# Altium integrated library ON Semi Triacs.IntLib: 233 symbols (part 2 of 5)
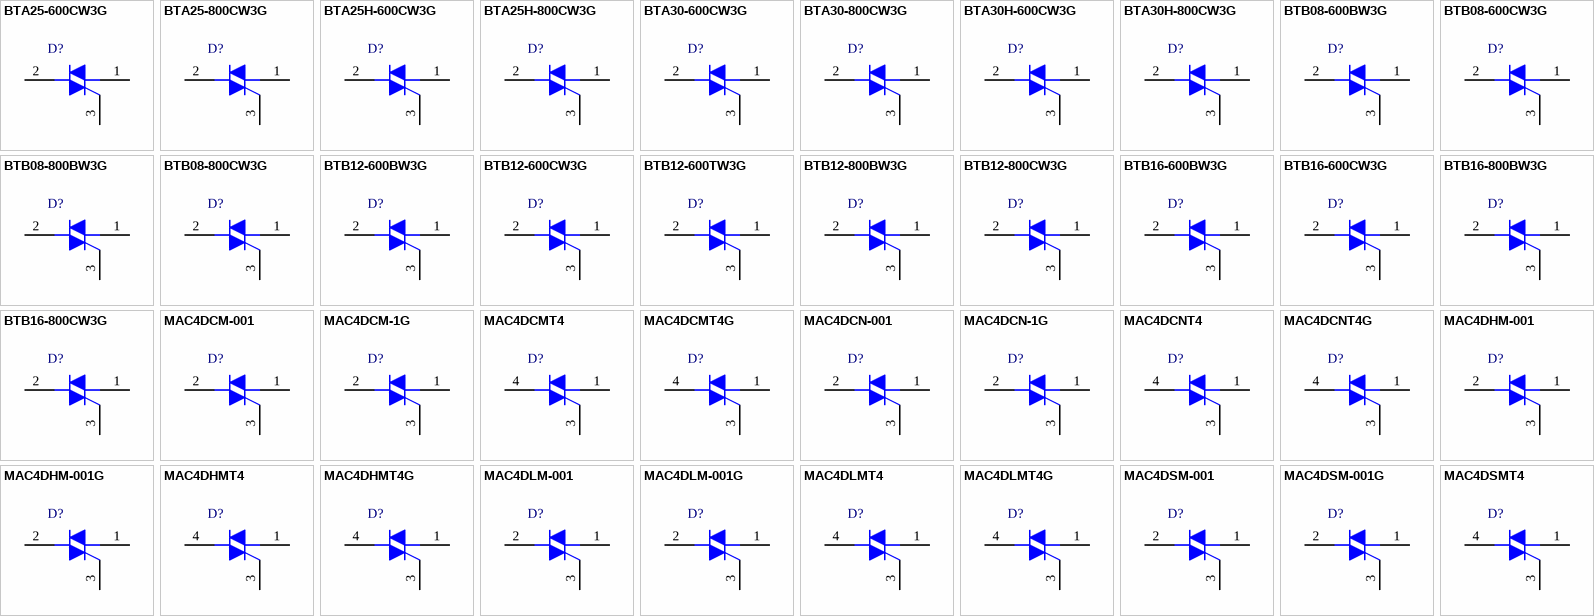
[diagram p6: symbols BTA25-600CW3G to MAC4DSMT4]

## BTB08-600BW3G
designator D?
Triacs, Silicon Bidirectional Thyristor, 3-Pin TO-220, Pb-Free, Tube; Manufacturer: On Semiconductor; PartNumber: BTB08-600BW3G; IGT Max (mA): 50; IT(RMS) Max (A): 8; ITSM Max (A): 90; DatasheetVersion: Rev. 1; PackageVersion: Rev. O, 07/2008; PackageReference: TO-220-3-221A-07; PackageDescription: 3-Pin Flange Mount, Vertical Straight Lead, Body 9.97 x 4.445 mm, Pitch 2.54 mm; Supplier 1: Digi-Key; Supplier Part Number 1: BTB08-600BW3G-ND; Supplier 2: Newark; Supplier Part Number 2: 75M3828; Supplier 3: Mouser; Supplier Part Number 3: 863-BTB08-600BW3G; Packing: Tube; RoHS: Pb-Free; Mounting Technology: Through Hole; ComponentLink1Description: Manufacturer URL; ComponentLink1URL: http://www.onsemi.com/; ComponentLink2Description: Datasheet; ComponentLink2URL: http://www.onsemi.com/pub_link/Collateral/BTB08-600BW3-D.PDF; ComponentLink3Description: Package Specification; ComponentLink3URL: http://www.onsemi.com/pub_link/Collateral/221A-07.PDF
footprint ONSC-TO-220-3-221A-07 (FM, 3-Leads, Body 10.3x4.85mm, Pitch 2.54mm)
pins: 1 MT1, 2 MT2, 3 G

## BTB08-600CW3G
designator D?
Triacs, Silicon Bidirectional Thyristor, 3-Pin TO-220, Pb-Free, Tube; Manufacturer: On Semiconductor; PartNumber: BTB08-600CW3G; IGT Max (mA): 35; IT(RMS) Max (A): 8; ITSM Max (A): 90; DatasheetVersion: Rev. 1; PackageVersion: Rev. O, 07/2008; PackageReference: TO-220-3-221A-07; PackageDescription: 3-Pin Flange Mount, Vertical Straight Lead, Body 9.97 x 4.445 mm, Pitch 2.54 mm; Supplier 1: Digi-Key; Supplier Part Number 1: BTB08-600CW3G-ND; Supplier 2: Newark; Supplier Part Number 2: 75M3829; Supplier 3: Mouser; Supplier Part Number 3: 863-BTB08-600CW3G; Packing: Tube; RoHS: Pb-Free; Mounting Technology: Through Hole; ComponentLink1Description: Manufacturer URL; ComponentLink1URL: http://www.onsemi.com/; ComponentLink2Description: Datasheet; ComponentLink2URL: http://www.onsemi.com/pub_link/Collateral/BTB08-600CW3-D.PDF; ComponentLink3Description: Package Specification; ComponentLink3URL: http://www.onsemi.com/pub_link/Collateral/221A-07.PDF
footprint ONSC-TO-220-3-221A-07 (FM, 3-Leads, Body 10.3x4.85mm, Pitch 2.54mm)
pins: 1 MT1, 2 MT2, 3 G

## BTB08-800BW3G
designator D?
Triacs, Silicon Bidirectional Thyristor, 3-Pin TO-220, Pb-Free, Tube; Manufacturer: On Semiconductor; PartNumber: BTB08-800BW3G; IGT Max (mA): 50; IT(RMS) Max (A): 8; ITSM Max (A): 90; DatasheetVersion: Rev. 1; PackageVersion: Rev. O, 07/2008; PackageReference: TO-220-3-221A-07; PackageDescription: 3-Pin Flange Mount, Vertical Straight Lead, Body 9.97 x 4.445 mm, Pitch 2.54 mm; Supplier 1: Digi-Key; Supplier Part Number 1: BTB08-800BW3G-ND; Supplier 2: Mouser; Supplier Part Number 2: 863-BTB08-800BW3G; Packing: Tube; RoHS: Pb-Free; Mounting Technology: Through Hole; ComponentLink1Description: Manufacturer URL; ComponentLink1URL: http://www.onsemi.com/; ComponentLink2Description: Datasheet; ComponentLink2URL: http://www.onsemi.com/pub_link/Collateral/BTB08-600BW3-D.PDF; ComponentLink3Description: Package Specification; ComponentLink3URL: http://www.onsemi.com/pub_link/Collateral/221A-07.PDF
footprint ONSC-TO-220-3-221A-07 (FM, 3-Leads, Body 10.3x4.85mm, Pitch 2.54mm)
pins: 1 MT1, 2 MT2, 3 G

## BTB08-800CW3G
designator D?
Triacs, Silicon Bidirectional Thyristor, 3-Pin TO-220, Pb-Free, Tube; Manufacturer: On Semiconductor; PartNumber: BTB08-800CW3G; IGT Max (mA): 35; IT(RMS) Max (A): 8; ITSM Max (A): 90; DatasheetVersion: Rev. 1; PackageVersion: Rev. O, 07/2008; PackageReference: TO-220-3-221A-07; PackageDescription: 3-Pin Flange Mount, Vertical Straight Lead, Body 9.97 x 4.445 mm, Pitch 2.54 mm; Supplier 1: Digi-Key; Supplier Part Number 1: BTB08-800CW3G-ND; Supplier 2: Mouser; Supplier Part Number 2: 863-BTB08-800CW3G; Packing: Tube; RoHS: Pb-Free; Mounting Technology: Through Hole; ComponentLink1Description: Manufacturer URL; ComponentLink1URL: http://www.onsemi.com/; ComponentLink2Description: Datasheet; ComponentLink2URL: http://www.onsemi.com/pub_link/Collateral/BTB08-600CW3-D.PDF; ComponentLink3Description: Package Specification; ComponentLink3URL: http://www.onsemi.com/pub_link/Collateral/221A-07.PDF
footprint ONSC-TO-220-3-221A-07 (FM, 3-Leads, Body 10.3x4.85mm, Pitch 2.54mm)
pins: 1 MT1, 2 MT2, 3 G

## BTB12-600BW3G
designator D?
Triacs, Silicon Bidirectional Thyristor, 3-Pin TO-220, Pb-Free, Tube; Manufacturer: On Semiconductor; PartNumber: BTB12-600BW3G; IGT Max (mA): 50; IT(RMS) Max (A): 12; ITSM Max (A): 120; DatasheetVersion: Rev. 1; PackageVersion: Rev. O, 07/2008; PackageReference: TO-220-3-221A-07; PackageDescription: 3-Pin Flange Mount, Vertical Straight Lead, Body 9.97 x 4.445 mm, Pitch 2.54 mm; Supplier 1: Digi-Key; Supplier Part Number 1: BTB12-600BW3GOS-ND; Supplier 2: Newark; Supplier Part Number 2: 75M3832; Supplier 3: Mouser; Supplier Part Number 3: 863-BTB12-600BW3G; Packing: Tube; RoHS: Pb-Free; Mounting Technology: Through Hole; ComponentLink1Description: Manufacturer URL; ComponentLink1URL: http://www.onsemi.com/; ComponentLink2Description: Datasheet; ComponentLink2URL: http://www.onsemi.com/pub_link/Collateral/BTB12-600BW3-D.PDF; ComponentLink3Description: Package Specification; ComponentLink3URL: http://www.onsemi.com/pub_link/Collateral/221A-07.PDF
footprint ONSC-TO-220-3-221A-07 (FM, 3-Leads, Body 10.3x4.85mm, Pitch 2.54mm)
pins: 1 MT1, 2 MT2, 3 G

## BTB12-600CW3G
designator D?
Triacs, Silicon Bidirectional Thyristor, 3-Pin TO-220, Pb-Free, Tube; Manufacturer: On Semiconductor; PartNumber: BTB12-600CW3G; IGT Max (mA): 35; IT(RMS) Max (A): 12; ITSM Max (A): 120; DatasheetVersion: Rev. 1; PackageVersion: Rev. O, 07/2008; PackageReference: TO-220-3-221A-07; PackageDescription: 3-Pin Flange Mount, Vertical Straight Lead, Body 9.97 x 4.445 mm, Pitch 2.54 mm; Supplier 1: Digi-Key; Supplier Part Number 1: BTB12-600CW3GOS-ND; Supplier 2: Farnell; Supplier Part Number 2: 1707055; Supplier 3: Newark; Supplier Part Number 3: 75M3833; Supplier 4: Mouser; Supplier Part Number 4: 863-BTB12-600CW3G; Packing: Tube; RoHS: Pb-Free; Mounting Technology: Through Hole; ComponentLink1Description: Manufacturer URL; ComponentLink1URL: http://www.onsemi.com/; ComponentLink2Description: Datasheet; ComponentLink2URL: http://www.onsemi.com/pub_link/Collateral/BTB12-600CW3-D.PDF; ComponentLink3Description: Package Specification; ComponentLink3URL: http://www.onsemi.com/pub_link/Collateral/221A-07.PDF
footprint ONSC-TO-220-3-221A-07 (FM, 3-Leads, Body 10.3x4.85mm, Pitch 2.54mm)
pins: 1 MT1, 2 MT2, 3 G

## BTB12-600TW3G
designator D?
Triacs, Silicon Bidirectional Thyristor, 3-Pin TO-220, Pb-Free, Tube; Manufacturer: On Semiconductor; PartNumber: BTB12-600TW3G; IGT Max (mA): 5; IT(RMS) Max (A): 12; ITSM Max (A): 126; DatasheetVersion: Rev. 0; PackageVersion: Rev. O, 07/2008; PackageReference: TO-220-3-221A-07; PackageDescription: 3-Pin Flange Mount, Vertical Straight Lead, Body 9.97 x 4.445 mm, Pitch 2.54 mm; Supplier 1: Digi-Key; Supplier Part Number 1: BTB12-600TW3GOS-ND; Supplier 2: Mouser; Supplier Part Number 2: 863-BTB12-600TW3G; Packing: Tube; RoHS: Pb-Free; Mounting Technology: Through Hole; ComponentLink1Description: Manufacturer URL; ComponentLink1URL: http://www.onsemi.com/; ComponentLink2Description: Datasheet; ComponentLink2URL: http://www.onsemi.com/pub_link/Collateral/BTB12-600TW3-D.PDF; ComponentLink3Description: Package Specification; ComponentLink3URL: http://www.onsemi.com/pub_link/Collateral/221A-07.PDF
footprint ONSC-TO-220-3-221A-07 (FM, 3-Leads, Body 10.3x4.85mm, Pitch 2.54mm)
pins: 1 MT1, 2 MT2, 3 G

## BTB12-800BW3G
designator D?
Triacs, Silicon Bidirectional Thyristor, 3-Pin TO-220, Pb-Free, Tube; Manufacturer: On Semiconductor; PartNumber: BTB12-800BW3G; IGT Max (mA): 50; IT(RMS) Max (A): 12; ITSM Max (A): 120; DatasheetVersion: Rev. 1; PackageVersion: Rev. O, 07/2008; PackageReference: TO-220-3-221A-07; PackageDescription: 3-Pin Flange Mount, Vertical Straight Lead, Body 9.97 x 4.445 mm, Pitch 2.54 mm; Supplier 1: Digi-Key; Supplier Part Number 1: BTB12-800BW3GOS-ND; Supplier 2: Newark; Supplier Part Number 2: 75M3834; Supplier 3: Mouser; Supplier Part Number 3: 863-BTB12-800BW3G; Packing: Tube; RoHS: Pb-Free; Mounting Technology: Through Hole; ComponentLink1Description: Manufacturer URL; ComponentLink1URL: http://www.onsemi.com/; ComponentLink2Description: Datasheet; ComponentLink2URL: http://www.onsemi.com/pub_link/Collateral/BTB12-600BW3-D.PDF; ComponentLink3Description: Package Specification; ComponentLink3URL: http://www.onsemi.com/pub_link/Collateral/221A-07.PDF
footprint ONSC-TO-220-3-221A-07 (FM, 3-Leads, Body 10.3x4.85mm, Pitch 2.54mm)
pins: 1 MT1, 2 MT2, 3 G

## BTB12-800CW3G
designator D?
Triacs, Silicon Bidirectional Thyristor, 3-Pin TO-220, Pb-Free, Tube; Manufacturer: On Semiconductor; PartNumber: BTB12-800CW3G; IGT Max (mA): 35; IT(RMS) Max (A): 12; ITSM Max (A): 120; DatasheetVersion: Rev. 1; PackageVersion: Rev. O, 07/2008; PackageReference: TO-220-3-221A-07; PackageDescription: 3-Pin Flange Mount, Vertical Straight Lead, Body 9.97 x 4.445 mm, Pitch 2.54 mm; Supplier 1: Digi-Key; Supplier Part Number 1: BTB12-800CW3GOS-ND; Supplier 2: Mouser; Supplier Part Number 2: 863-BTB12-800CW3G; Packing: Tube; RoHS: Pb-Free; Mounting Technology: Through Hole; ComponentLink1Description: Manufacturer URL; ComponentLink1URL: http://www.onsemi.com/; ComponentLink2Description: Datasheet; ComponentLink2URL: http://www.onsemi.com/pub_link/Collateral/BTB12-600CW3-D.PDF; ComponentLink3Description: Package Specification; ComponentLink3URL: http://www.onsemi.com/pub_link/Collateral/221A-07.PDF
footprint ONSC-TO-220-3-221A-07 (FM, 3-Leads, Body 10.3x4.85mm, Pitch 2.54mm)
pins: 1 MT1, 2 MT2, 3 G

## BTB16-600BW3G
designator D?
Triacs, Silicon Bidirectional Thyristor, 3-Pin TO-220, Pb-Free, Tube; Manufacturer: On Semiconductor; PartNumber: BTB16-600BW3G; IGT Max (mA): 50; IT(RMS) Max (A): 16; ITSM Max (A): 170; DatasheetVersion: Rev. 2; PackageVersion: Rev. O, 07/2008; PackageReference: TO-220-3-221A-07; PackageDescription: 3-Pin Flange Mount, Vertical Straight Lead, Body 9.97 x 4.445 mm, Pitch 2.54 mm; Supplier 1: Digi-Key; Supplier Part Number 1: BTB16-600BW3G-ND; Supplier 2: Mouser; Supplier Part Number 2: 863-BTB16-600BW3G; Packing: Tube; RoHS: Pb-Free; Mounting Technology: Through Hole; ComponentLink1Description: Manufacturer URL; ComponentLink1URL: http://www.onsemi.com/; ComponentLink2Description: Datasheet; ComponentLink2URL: http://www.onsemi.com/pub_link/Collateral/BTB16-600BW3-D.PDF; ComponentLink3Description: Package Specification; ComponentLink3URL: http://www.onsemi.com/pub_link/Collateral/221A-07.PDF
footprint ONSC-TO-220-3-221A-07 (FM, 3-Leads, Body 10.3x4.85mm, Pitch 2.54mm)
pins: 1 MT1, 2 MT2, 3 G

## BTB16-600CW3G
designator D?
Triacs, Silicon Bidirectional Thyristor, 3-Pin TO-220, Pb-Free, Tube; Manufacturer: On Semiconductor; PartNumber: BTB16-600CW3G; IGT Max (mA): 35; IT(RMS) Max (A): 16; ITSM Max (A): 170; DatasheetVersion: Rev. 2; PackageVersion: Rev. O, 07/2008; PackageReference: TO-220-3-221A-07; PackageDescription: 3-Pin Flange Mount, Vertical Straight Lead, Body 9.97 x 4.445 mm, Pitch 2.54 mm; Supplier 1: Digi-Key; Supplier Part Number 1: BTB16-600CW3G-ND; Supplier 2: Farnell; Supplier Part Number 2: 1706026; Supplier 3: Newark; Supplier Part Number 3: 75M3837; Supplier 4: Mouser; Supplier Part Number 4: 863-BTB16-600CW3G; Packing: Tube; RoHS: Pb-Free; Mounting Technology: Through Hole; ComponentLink1Description: Manufacturer URL; ComponentLink1URL: http://www.onsemi.com/; ComponentLink2Description: Datasheet; ComponentLink2URL: http://www.onsemi.com/pub_link/Collateral/BTB16-600CW3-D.PDF; ComponentLink3Description: Package Specification; ComponentLink3URL: http://www.onsemi.com/pub_link/Collateral/221A-07.PDF
footprint ONSC-TO-220-3-221A-07 (FM, 3-Leads, Body 10.3x4.85mm, Pitch 2.54mm)
pins: 1 MT1, 2 MT2, 3 G

## BTB16-800BW3G
designator D?
Triacs, Silicon Bidirectional Thyristor, 3-Pin TO-220, Pb-Free, Tube; Manufacturer: On Semiconductor; PartNumber: BTB16-800BW3G; IGT Max (mA): 50; IT(RMS) Max (A): 16; ITSM Max (A): 170; DatasheetVersion: Rev. 2; PackageVersion: Rev. O, 07/2008; PackageReference: TO-220-3-221A-07; PackageDescription: 3-Pin Flange Mount, Vertical Straight Lead, Body 9.97 x 4.445 mm, Pitch 2.54 mm; Supplier 1: Digi-Key; Supplier Part Number 1: BTB16-800BW3G-ND; Supplier 2: Newark; Supplier Part Number 2: 75M3838; Supplier 3: Mouser; Supplier Part Number 3: 863-BTB16-800BW3G; Packing: Tube; RoHS: Pb-Free; Mounting Technology: Through Hole; ComponentLink1Description: Manufacturer URL; ComponentLink1URL: http://www.onsemi.com/; ComponentLink2Description: Datasheet; ComponentLink2URL: http://www.onsemi.com/pub_link/Collateral/BTB16-600BW3-D.PDF; ComponentLink3Description: Package Specification; ComponentLink3URL: http://www.onsemi.com/pub_link/Collateral/221A-07.PDF
footprint ONSC-TO-220-3-221A-07 (FM, 3-Leads, Body 10.3x4.85mm, Pitch 2.54mm)
pins: 1 MT1, 2 MT2, 3 G

## BTB16-800CW3G
designator D?
Triacs, Silicon Bidirectional Thyristor, 3-Pin TO-220, Pb-Free, Tube; Manufacturer: On Semiconductor; PartNumber: BTB16-800CW3G; IGT Max (mA): 35; IT(RMS) Max (A): 16; ITSM Max (A): 170; DatasheetVersion: Rev. 2; PackageVersion: Rev. O, 07/2008; PackageReference: TO-220-3-221A-07; PackageDescription: 3-Pin Flange Mount, Vertical Straight Lead, Body 9.97 x 4.445 mm, Pitch 2.54 mm; Supplier 1: Digi-Key; Supplier Part Number 1: BTB16-800CW3G-ND; Supplier 2: Newark; Supplier Part Number 2: 75M3839; Supplier 3: Mouser; Supplier Part Number 3: 863-BTB16-800CW3G; Packing: Tube; RoHS: Pb-Free; Mounting Technology: Through Hole; ComponentLink1Description: Manufacturer URL; ComponentLink1URL: http://www.onsemi.com/; ComponentLink2Description: Datasheet; ComponentLink2URL: http://www.onsemi.com/pub_link/Collateral/BTB16-600CW3-D.PDF; ComponentLink3Description: Package Specification; ComponentLink3URL: http://www.onsemi.com/pub_link/Collateral/221A-07.PDF
footprint ONSC-TO-220-3-221A-07 (FM, 3-Leads, Body 10.3x4.85mm, Pitch 2.54mm)
pins: 1 MT1, 2 MT2, 3 G

## MAC4DCM-001
designator D?
Triacs, Silicon Bidirectional Thyristor, 3-Pin IPAK, Tube; Manufacturer: On Semiconductor; PartNumber: MAC4DCM-001; IGT Max (mA): 35; IT(RMS) Max (A): 4; ITSM Max (A): 40; DatasheetVersion: Rev. 7; PackageVersion: Rev. C, 12/2010; PackageReference: IPAK-3-369D-01; PackageDescription: 3-Pin Flange Mount, Vertical Straight Lead, Body 6.54 x 2.285 mm, Pitch 2.29 mm; Supplier 1: Digi-Key; Supplier Part Number 1: MAC4DCM-001-ND; Supplier 2: Mouser; Supplier Part Number 2: 863-MAC4DCM-001; Packing: Tube; Mounting Technology: Through Hole; Code_JEDEC: TO-251; ComponentLink1Description: Manufacturer URL; ComponentLink1URL: http://www.onsemi.com/; ComponentLink2Description: Datasheet; ComponentLink2URL: http://www.onsemi.com/pub_link/Collateral/MAC4DCM-D.PDF; ComponentLink3Description: Package Specification; ComponentLink3URL: http://www.onsemi.cn/pub_link/Collateral/369D.PDF
footprint ONSC-IPAK-3-369D-01 (FM, 3-Leads, Body 6.75x2.4mm, Pitch 2.29mm)
pins: 1 MT1, 2 MT2, 3 G

## MAC4DCM-1G
designator D?
Triacs, Silicon Bidirectional Thyristor, 3-Pin IPAK, Pb-Free, Tube; Manufacturer: On Semiconductor; PartNumber: MAC4DCM-1G; IGT Max (mA): 35; IT(RMS) Max (A): 4; ITSM Max (A): 40; DatasheetVersion: Rev. 7; PackageVersion: Rev. C, 12/2010; PackageReference: IPAK-3-369D-01; PackageDescription: 3-Pin Flange Mount, Vertical Straight Lead, Body 6.54 x 2.285 mm, Pitch 2.29 mm; Supplier 1: Digi-Key; Supplier Part Number 1: MAC4DCM-1G-ND; Supplier 2: Newark; Supplier Part Number 2: 41K9933; Supplier 3: Mouser; Supplier Part Number 3: 863-MAC4DCM-1G; Packing: Tube; RoHS: Pb-Free; Mounting Technology: Through Hole; Code_JEDEC: TO-251; ComponentLink1Description: Manufacturer URL; ComponentLink1URL: http://www.onsemi.com/; ComponentLink2Description: Datasheet; ComponentLink2URL: http://www.onsemi.com/pub_link/Collateral/MAC4DCM-D.PDF; ComponentLink3Description: Package Specification; ComponentLink3URL: http://www.onsemi.cn/pub_link/Collateral/369D.PDF
footprint ONSC-IPAK-3-369D-01 (FM, 3-Leads, Body 6.75x2.4mm, Pitch 2.29mm)
pins: 1 MT1, 2 MT2, 3 G

## MAC4DCMT4
designator D?
Triacs, Silicon Bidirectional Thyristor, 3-Pin DPAK, Tape and Reel; Manufacturer: On Semiconductor; PartNumber: MAC4DCMT4; IGT Max (mA): 35; IT(RMS) Max (A): 4; ITSM Max (A): 40; DatasheetVersion: Rev. 7; PackageVersion: Rev. E, 02/2014; PackageReference: DPAK-3-369C-01; PackageDescription: 3-Pin Flange Mount, Body 6.54 x 6.095 mm, Pitch 2.29 mm; Packing: Tape and Reel; Mounting Technology: Surface Mount; ComponentLink1Description: Manufacturer URL; ComponentLink1URL: http://www.onsemi.com/; ComponentLink2Description: Datasheet; ComponentLink2URL: http://www.onsemi.com/pub_link/Collateral/MAC4DCM-D.PDF; ComponentLink3Description: Package Specification; ComponentLink3URL: http://www.onsemi.cn/pub_link/Collateral/369C.PDF
footprint ONSC-DPAK-3-369C-01_V (DPAK, 3-Leads, Body 6.54x6.095mm, Pitch 2.29mm)
pins: 1 MT1, 3 G, 4 MT2

## MAC4DCMT4G
designator D?
Triacs, Silicon Bidirectional Thyristor, 3-Pin DPAK, Pb-Free, Tape and Reel; Manufacturer: On Semiconductor; PartNumber: MAC4DCMT4G; IGT Max (mA): 35; IT(RMS) Max (A): 4; ITSM Max (A): 40; DatasheetVersion: Rev. 7; PackageVersion: Rev. E, 02/2014; PackageReference: DPAK-3-369C-01; PackageDescription: 3-Pin Flange Mount, Body 6.54 x 6.095 mm, Pitch 2.29 mm; Supplier 1: Digi-Key; Supplier Part Number 1: MAC4DCMT4GOSTR-ND; Supplier 2: Digi-Key; Supplier Part Number 2: MAC4DCMT4GOSCT-ND; Supplier 3: Digi-Key; Supplier Part Number 3: MAC4DCMT4GOSDKR-ND; Supplier 4: Newark; Supplier Part Number 4: 71J5235; Supplier 5: Newark; Supplier Part Number 5: 05R8889; Supplier 6: Mouser; Supplier Part Number 6: 863-MAC4DCMT4G; Packing: Tape and Reel; RoHS: Pb-Free; Mounting Technology: Surface Mount; ComponentLink1Description: Manufacturer URL; ComponentLink1URL: http://www.onsemi.com/; ComponentLink2Description: Datasheet; ComponentLink2URL: http://www.onsemi.com/pub_link/Collateral/MAC4DCM-D.PDF; ComponentLink3Description: Package Specification; ComponentLink3URL: http://www.onsemi.cn/pub_link/Collateral/369C.PDF
footprint ONSC-DPAK-3-369C-01_V (DPAK, 3-Leads, Body 6.54x6.095mm, Pitch 2.29mm)
pins: 1 MT1, 3 G, 4 MT2

## MAC4DCN-001
designator D?
Triacs, Silicon Bidirectional Thyristor, 3-Pin IPAK, Tube; Manufacturer: On Semiconductor; PartNumber: MAC4DCN-001; IGT Max (mA): 35; IT(RMS) Max (A): 4; ITSM Max (A): 40; DatasheetVersion: Rev. 7; PackageVersion: Rev. C, 12/2010; PackageReference: IPAK-3-369D-01; PackageDescription: 3-Pin Flange Mount, Vertical Straight Lead, Body 6.54 x 2.285 mm, Pitch 2.29 mm; Supplier 1: Digi-Key; Supplier Part Number 1: MAC4DCN-001OS-ND; Supplier 2: Mouser; Supplier Part Number 2: 863-MAC4DCN-001; Packing: Tube; Mounting Technology: Through Hole; Code_JEDEC: TO-251; ComponentLink1Description: Manufacturer URL; ComponentLink1URL: http://www.onsemi.com/; ComponentLink2Description: Datasheet; ComponentLink2URL: http://www.onsemi.com/pub_link/Collateral/MAC4DCM-D.PDF; ComponentLink3Description: Package Specification; ComponentLink3URL: http://www.onsemi.cn/pub_link/Collateral/369D.PDF
footprint ONSC-IPAK-3-369D-01 (FM, 3-Leads, Body 6.75x2.4mm, Pitch 2.29mm)
pins: 1 MT1, 2 MT2, 3 G

## MAC4DCN-1G
designator D?
Triacs, Silicon Bidirectional Thyristor, 3-Pin IPAK, Pb-Free, Tube; Manufacturer: On Semiconductor; PartNumber: MAC4DCN-1G; IGT Max (mA): 35; IT(RMS) Max (A): 4; ITSM Max (A): 40; DatasheetVersion: Rev. 7; PackageVersion: Rev. C, 12/2010; PackageReference: IPAK-3-369D-01; PackageDescription: 3-Pin Flange Mount, Vertical Straight Lead, Body 6.54 x 2.285 mm, Pitch 2.29 mm; Supplier 1: Digi-Key; Supplier Part Number 1: MAC4DCN-1GOS-ND; Supplier 2: Farnell; Supplier Part Number 2: 2317536; Supplier 3: Newark; Supplier Part Number 3: 90W4470; Supplier 4: Newark; Supplier Part Number 4: 41K9934; Supplier 5: Mouser; Supplier Part Number 5: 863-MAC4DCN-1G; Packing: Tube; RoHS: Pb-Free; Mounting Technology: Through Hole; Code_JEDEC: TO-251; ComponentLink1Description: Manufacturer URL; ComponentLink1URL: http://www.onsemi.com/; ComponentLink2Description: Datasheet; ComponentLink2URL: http://www.onsemi.com/pub_link/Collateral/MAC4DCM-D.PDF; ComponentLink3Description: Package Specification; ComponentLink3URL: http://www.onsemi.cn/pub_link/Collateral/369D.PDF
footprint ONSC-IPAK-3-369D-01 (FM, 3-Leads, Body 6.75x2.4mm, Pitch 2.29mm)
pins: 1 MT1, 2 MT2, 3 G

## MAC4DCNT4
designator D?
Triacs, Silicon Bidirectional Thyristor, 3-Pin DPAK, Tape and Reel; Manufacturer: On Semiconductor; PartNumber: MAC4DCNT4; IGT Max (mA): 35; IT(RMS) Max (A): 4; ITSM Max (A): 40; DatasheetVersion: Rev. 7; PackageVersion: Rev. E, 02/2014; PackageReference: DPAK-3-369C-01; PackageDescription: 3-Pin Flange Mount, Body 6.54 x 6.095 mm, Pitch 2.29 mm; Supplier 1: Digi-Key; Supplier Part Number 1: MAC4DCNT4-ND; Packing: Tape and Reel; Mounting Technology: Surface Mount; ComponentLink1Description: Manufacturer URL; ComponentLink1URL: http://www.onsemi.com/; ComponentLink2Description: Datasheet; ComponentLink2URL: http://www.onsemi.com/pub_link/Collateral/MAC4DCM-D.PDF; ComponentLink3Description: Package Specification; ComponentLink3URL: http://www.onsemi.cn/pub_link/Collateral/369C.PDF
footprint ONSC-DPAK-3-369C-01_V (DPAK, 3-Leads, Body 6.54x6.095mm, Pitch 2.29mm)
pins: 1 MT1, 3 G, 4 MT2

## MAC4DCNT4G
designator D?
Triacs, Silicon Bidirectional Thyristor, 3-Pin DPAK, Pb-Free, Tape and Reel; Manufacturer: On Semiconductor; PartNumber: MAC4DCNT4G; IGT Max (mA): 35; IT(RMS) Max (A): 4; ITSM Max (A): 40; DatasheetVersion: Rev. 7; PackageVersion: Rev. E, 02/2014; PackageReference: DPAK-3-369C-01; PackageDescription: 3-Pin Flange Mount, Body 6.54 x 6.095 mm, Pitch 2.29 mm; Supplier 1: Digi-Key; Supplier Part Number 1: MAC4DCNT4GOSTR-ND; Supplier 2: Digi-Key; Supplier Part Number 2: MAC4DCNT4GOSCT-ND; Supplier 3: Digi-Key; Supplier Part Number 3: MAC4DCNT4GOSDKR-ND; Supplier 4: Farnell; Supplier Part Number 4: 1364039; Supplier 5: Newark; Supplier Part Number 5: 26K3652; Supplier 6: Mouser; Supplier Part Number 6: 863-MAC4DCNT4G; Packing: Tape and Reel; RoHS: Pb-Free; Mounting Technology: Surface Mount; ComponentLink1Description: Manufacturer URL; ComponentLink1URL: http://www.onsemi.com/; ComponentLink2Description: Datasheet; ComponentLink2URL: http://www.onsemi.com/pub_link/Collateral/MAC4DCM-D.PDF; ComponentLink3Description: Package Specification; ComponentLink3URL: http://www.onsemi.cn/pub_link/Collateral/369C.PDF
footprint ONSC-DPAK-3-369C-01_V (DPAK, 3-Leads, Body 6.54x6.095mm, Pitch 2.29mm)
pins: 1 MT1, 3 G, 4 MT2

## MAC4DHM-001
designator D?
Sensitive Gate Triacs, 3-Pin IPAK, Tube; Manufacturer: On Semiconductor; PartNumber: MAC4DHM-001; IT(RMS) Max (A): 4; ITSM Max (A): 40; DatasheetVersion: Rev. 6; PackageVersion: Rev. C, 12/2010; PackageReference: IPAK-3-369D-01; PackageDescription: 3-Pin Flange Mount, Vertical Straight Lead, Body 6.54 x 2.285 mm, Pitch 2.29 mm; Supplier 1: Mouser; Supplier Part Number 1: 863-MAC4DHM-001; Packing: Tube; Mounting Technology: Through Hole; Code_JEDEC: TO-251; ComponentLink1Description: Manufacturer URL; ComponentLink1URL: http://www.onsemi.com/; ComponentLink2Description: Datasheet; ComponentLink2URL: http://www.onsemi.com/pub_link/Collateral/MAC4DHM-D.PDF; ComponentLink3Description: Package Specification; ComponentLink3URL: http://www.onsemi.cn/pub_link/Collateral/369D.PDF
footprint ONSC-IPAK-3-369D-01 (FM, 3-Leads, Body 6.75x2.4mm, Pitch 2.29mm)
pins: 1 MT1, 2 MT2, 3 G

## MAC4DHM-001G
designator D?
Sensitive Gate Triacs, 3-Pin IPAK, Pb-Free, Tube; Manufacturer: On Semiconductor; PartNumber: MAC4DHM-001G; IT(RMS) Max (A): 4; ITSM Max (A): 40; DatasheetVersion: Rev. 6; PackageVersion: Rev. C, 12/2010; PackageReference: IPAK-3-369D-01; PackageDescription: 3-Pin Flange Mount, Vertical Straight Lead, Body 6.54 x 2.285 mm, Pitch 2.29 mm; Supplier 1: Mouser; Supplier Part Number 1: N/A; Packing: Tube; RoHS: Pb-Free; Mounting Technology: Through Hole; Code_JEDEC: TO-251; ComponentLink1Description: Manufacturer URL; ComponentLink1URL: http://www.onsemi.com/; ComponentLink2Description: Datasheet; ComponentLink2URL: http://www.onsemi.com/pub_link/Collateral/MAC4DHM-D.PDF; ComponentLink3Description: Package Specification; ComponentLink3URL: http://www.onsemi.cn/pub_link/Collateral/369D.PDF
footprint ONSC-IPAK-3-369D-01 (FM, 3-Leads, Body 6.75x2.4mm, Pitch 2.29mm)
pins: 1 MT1, 2 MT2, 3 G

## MAC4DHMT4
designator D?
Sensitive Gate Triacs, 3-Pin DPAK, Tape and Reel; Manufacturer: On Semiconductor; PartNumber: MAC4DHMT4; IT(RMS) Max (A): 4; ITSM Max (A): 40; DatasheetVersion: Rev. 6; PackageVersion: Rev. E, 02/2014; PackageReference: DPAK-3-369C-01; PackageDescription: 3-Pin Flange Mount, Body 6.54 x 6.095 mm, Pitch 2.29 mm; Supplier 1: Digi-Key; Supplier Part Number 1: MAC4DHMT4OSCT-ND; Supplier 2: Digi-Key; Supplier Part Number 2: MAC4DHMT4OSDKR-ND; Packing: Tape and Reel; Mounting Technology: Surface Mount; ComponentLink1Description: Manufacturer URL; ComponentLink1URL: http://www.onsemi.com/; ComponentLink2Description: Datasheet; ComponentLink2URL: http://www.onsemi.com/pub_link/Collateral/MAC4DHM-D.PDF; ComponentLink3Description: Package Specification; ComponentLink3URL: http://www.onsemi.cn/pub_link/Collateral/369C.PDF
footprint ONSC-DPAK-3-369C-01_V (DPAK, 3-Leads, Body 6.54x6.095mm, Pitch 2.29mm)
pins: 1 MT1, 3 G, 4 MT2

## MAC4DHMT4G
designator D?
Sensitive Gate Triacs, 3-Pin DPAK, Pb-Free, Tape and Reel; Manufacturer: On Semiconductor; PartNumber: MAC4DHMT4G; IT(RMS) Max (A): 4; ITSM Max (A): 40; DatasheetVersion: Rev. 6; PackageVersion: Rev. E, 02/2014; PackageReference: DPAK-3-369C-01; PackageDescription: 3-Pin Flange Mount, Body 6.54 x 6.095 mm, Pitch 2.29 mm; Supplier 1: Digi-Key; Supplier Part Number 1: MAC4DHMT4GOSTR-ND; Supplier 2: Digi-Key; Supplier Part Number 2: MAC4DHMT4GOSCT-ND; Supplier 3: Digi-Key; Supplier Part Number 3: MAC4DHMT4GOSDKR-ND; Supplier 4: Farnell; Supplier Part Number 4: 1258364; Supplier 5: Newark; Supplier Part Number 5: 41K9936; Supplier 6: Mouser; Supplier Part Number 6: 863-MAC4DHMT4G; Packing: Tape and Reel; RoHS: Pb-Free; Mounting Technology: Surface Mount; ComponentLink1Description: Manufacturer URL; ComponentLink1URL: http://www.onsemi.com/; ComponentLink2Description: Datasheet; ComponentLink2URL: http://www.onsemi.com/pub_link/Collateral/MAC4DHM-D.PDF; ComponentLink3Description: Package Specification; ComponentLink3URL: http://www.onsemi.cn/pub_link/Collateral/369C.PDF
footprint ONSC-DPAK-3-369C-01_V (DPAK, 3-Leads, Body 6.54x6.095mm, Pitch 2.29mm)
pins: 1 MT1, 3 G, 4 MT2

## MAC4DLM-001
designator D?
Sensitive Gate Triacs, Silicon Bidirectional Thyristor, 3-Pin IPAK, Tube; Manufacturer: On Semiconductor; PartNumber: MAC4DLM-001; IT(RMS) Max (A): 4; ITSM Max (A): 40; DatasheetVersion: Rev. 5; PackageVersion: Rev. C, 12/2010; PackageReference: IPAK-3-369D-01; PackageDescription: 3-Pin Flange Mount, Vertical Straight Lead, Body 6.54 x 2.285 mm, Pitch 2.29 mm; Supplier 1: Digi-Key; Supplier Part Number 1: MAC4DLM-001-ND; Supplier 2: Mouser; Supplier Part Number 2: N/A; Packing: Tube; Mounting Technology: Through Hole; Code_JEDEC: TO-251; ComponentLink1Description: Manufacturer URL; ComponentLink1URL: http://www.onsemi.com/; ComponentLink2Description: Datasheet; ComponentLink2URL: http://www.onsemi.com/pub_link/Collateral/MAC4DLM-D.PDF; ComponentLink3Description: Package Specification; ComponentLink3URL: http://www.onsemi.cn/pub_link/Collateral/369D.PDF
footprint ONSC-IPAK-3-369D-01 (FM, 3-Leads, Body 6.75x2.4mm, Pitch 2.29mm)
pins: 1 MT1, 2 MT2, 3 G

## MAC4DLM-001G
designator D?
Sensitive Gate Triacs, Silicon Bidirectional Thyristor, 3-Pin IPAK, Pb-Free, Tube; Manufacturer: On Semiconductor; PartNumber: MAC4DLM-001G; IT(RMS) Max (A): 4; ITSM Max (A): 40; DatasheetVersion: Rev. 5; PackageVersion: Rev. C, 12/2010; PackageReference: IPAK-3-369D-01; PackageDescription: 3-Pin Flange Mount, Vertical Straight Lead, Body 6.54 x 2.285 mm, Pitch 2.29 mm; Packing: Tube; RoHS: Pb-Free; Mounting Technology: Through Hole; Code_JEDEC: TO-251; ComponentLink1Description: Manufacturer URL; ComponentLink1URL: http://www.onsemi.com/; ComponentLink2Description: Datasheet; ComponentLink2URL: http://www.onsemi.com/pub_link/Collateral/MAC4DLM-D.PDF; ComponentLink3Description: Package Specification; ComponentLink3URL: http://www.onsemi.cn/pub_link/Collateral/369D.PDF
footprint ONSC-IPAK-3-369D-01 (FM, 3-Leads, Body 6.75x2.4mm, Pitch 2.29mm)
pins: 1 MT1, 2 MT2, 3 G

## MAC4DLMT4
designator D?
Sensitive Gate Triacs, Silicon Bidirectional Thyristor, 3-Pin DPAK, Tape and Reel; Manufacturer: On Semiconductor; PartNumber: MAC4DLMT4; IT(RMS) Max (A): 4; ITSM Max (A): 40; DatasheetVersion: Rev. 5; PackageVersion: Rev. E, 02/2014; PackageReference: DPAK-3-369C-01; PackageDescription: 3-Pin Flange Mount, Body 6.54 x 6.095 mm, Pitch 2.29 mm; Packing: Tape and Reel; Mounting Technology: Surface Mount; ComponentLink1Description: Manufacturer URL; ComponentLink1URL: http://www.onsemi.com/; ComponentLink2Description: Datasheet; ComponentLink2URL: http://www.onsemi.com/pub_link/Collateral/MAC4DLM-D.PDF; ComponentLink3Description: Package Specification; ComponentLink3URL: http://www.onsemi.cn/pub_link/Collateral/369C.PDF
footprint ONSC-DPAK-3-369C-01_V (DPAK, 3-Leads, Body 6.54x6.095mm, Pitch 2.29mm)
pins: 1 MT1, 3 G, 4 MT2

## MAC4DLMT4G
designator D?
Sensitive Gate Triacs, Silicon Bidirectional Thyristor, 3-Pin DPAK, Pb-Free, Tape and Reel; Manufacturer: On Semiconductor; PartNumber: MAC4DLMT4G; IT(RMS) Max (A): 4; ITSM Max (A): 40; DatasheetVersion: Rev. 5; PackageVersion: Rev. E, 02/2014; PackageReference: DPAK-3-369C-01; PackageDescription: 3-Pin Flange Mount, Body 6.54 x 6.095 mm, Pitch 2.29 mm; Supplier 1: Digi-Key; Supplier Part Number 1: MAC4DLMT4GOSTR-ND; Supplier 2: Digi-Key; Supplier Part Number 2: MAC4DLMT4GOSCT-ND; Supplier 3: Digi-Key; Supplier Part Number 3: MAC4DLMT4GOSDKR-ND; Supplier 4: Farnell; Supplier Part Number 4: 2317530; Supplier 5: Newark; Supplier Part Number 5: 85W3161; Supplier 6: Newark; Supplier Part Number 6: 41K9938; Supplier 7: Mouser; Supplier Part Number 7: 863-MAC4DLMT4G; Packing: Tape and Reel; RoHS: Pb-Free; Mounting Technology: Surface Mount; ComponentLink1Description: Manufacturer URL; ComponentLink1URL: http://www.onsemi.com/; ComponentLink2Description: Datasheet; ComponentLink2URL: http://www.onsemi.com/pub_link/Collateral/MAC4DLM-D.PDF; ComponentLink3Description: Package Specification; ComponentLink3URL: http://www.onsemi.cn/pub_link/Collateral/369C.PDF
footprint ONSC-DPAK-3-369C-01_V (DPAK, 3-Leads, Body 6.54x6.095mm, Pitch 2.29mm)
pins: 1 MT1, 3 G, 4 MT2

## MAC4DSM-001
designator D?
Triacs, Silicon Bidirectional Thyristor, 3-Pin IPAK, Tube; Manufacturer: On Semiconductor; PartNumber: MAC4DSM-001; IGT Max (mA): 10; IT(RMS) Max (A): 4; ITSM Max (A): 40; DatasheetVersion: Rev. 6; PackageVersion: Rev. C, 12/2010; PackageReference: IPAK-3-369D-01; PackageDescription: 3-Pin Flange Mount, Vertical Straight Lead, Body 6.54 x 2.285 mm, Pitch 2.29 mm; Supplier 1: Digi-Key; Supplier Part Number 1: MAC4DSM-001-ND; Supplier 2: Mouser; Supplier Part Number 2: 863-MAC4DSM-001; Packing: Tube; Mounting Technology: Through Hole; Code_JEDEC: TO-251; ComponentLink1Description: Manufacturer URL; ComponentLink1URL: http://www.onsemi.com/; ComponentLink2Description: Datasheet; ComponentLink2URL: http://www.onsemi.com/pub_link/Collateral/MAC4DSM-D.PDF; ComponentLink3Description: Package Specification; ComponentLink3URL: http://www.onsemi.cn/pub_link/Collateral/369D.PDF
footprint ONSC-IPAK-3-369D-01 (FM, 3-Leads, Body 6.75x2.4mm, Pitch 2.29mm)
pins: 1 MT1, 2 MT2, 3 G

## MAC4DSM-001G
designator D?
Triacs, Silicon Bidirectional Thyristor, 3-Pin IPAK, Pb-Free, Tube; Manufacturer: On Semiconductor; PartNumber: MAC4DSM-001G; IGT Max (mA): 10; IT(RMS) Max (A): 4; ITSM Max (A): 40; DatasheetVersion: Rev. 6; PackageVersion: Rev. C, 12/2010; PackageReference: IPAK-3-369D-01; PackageDescription: 3-Pin Flange Mount, Vertical Straight Lead, Body 6.54 x 2.285 mm, Pitch 2.29 mm; Packing: Tube; RoHS: Pb-Free; Mounting Technology: Through Hole; Code_JEDEC: TO-251; ComponentLink1Description: Manufacturer URL; ComponentLink1URL: http://www.onsemi.com/; ComponentLink2Description: Datasheet; ComponentLink2URL: http://www.onsemi.com/pub_link/Collateral/MAC4DSM-D.PDF; ComponentLink3Description: Package Specification; ComponentLink3URL: http://www.onsemi.cn/pub_link/Collateral/369D.PDF
footprint ONSC-IPAK-3-369D-01 (FM, 3-Leads, Body 6.75x2.4mm, Pitch 2.29mm)
pins: 1 MT1, 2 MT2, 3 G

## MAC4DSMT4
designator D?
Triacs, Silicon Bidirectional Thyristor, 3-Pin DPAK, Tape and Reel; Manufacturer: On Semiconductor; PartNumber: MAC4DSMT4; IGT Max (mA): 10; IT(RMS) Max (A): 4; ITSM Max (A): 40; DatasheetVersion: Rev. 6; PackageVersion: Rev. E, 02/2014; PackageReference: DPAK-3-369C-01; PackageDescription: 3-Pin Flange Mount, Body 6.54 x 6.095 mm, Pitch 2.29 mm; Supplier 1: Digi-Key; Supplier Part Number 1: MAC4DSMT4OSTR-ND; Supplier 2: Digi-Key; Supplier Part Number 2: MAC4DSMT4OSCT-ND; Supplier 3: Digi-Key; Supplier Part Number 3: MAC4DSMT4OSDKR-ND; Packing: Tape and Reel; Mounting Technology: Surface Mount; ComponentLink1Description: Manufacturer URL; ComponentLink1URL: http://www.onsemi.com/; ComponentLink2Description: Datasheet; ComponentLink2URL: http://www.onsemi.com/pub_link/Collateral/MAC4DSM-D.PDF; ComponentLink3Description: Package Specification; ComponentLink3URL: http://www.onsemi.cn/pub_link/Collateral/369C.PDF
footprint ONSC-DPAK-3-369C-01_V (DPAK, 3-Leads, Body 6.54x6.095mm, Pitch 2.29mm)
pins: 1 MT1, 3 G, 4 MT2

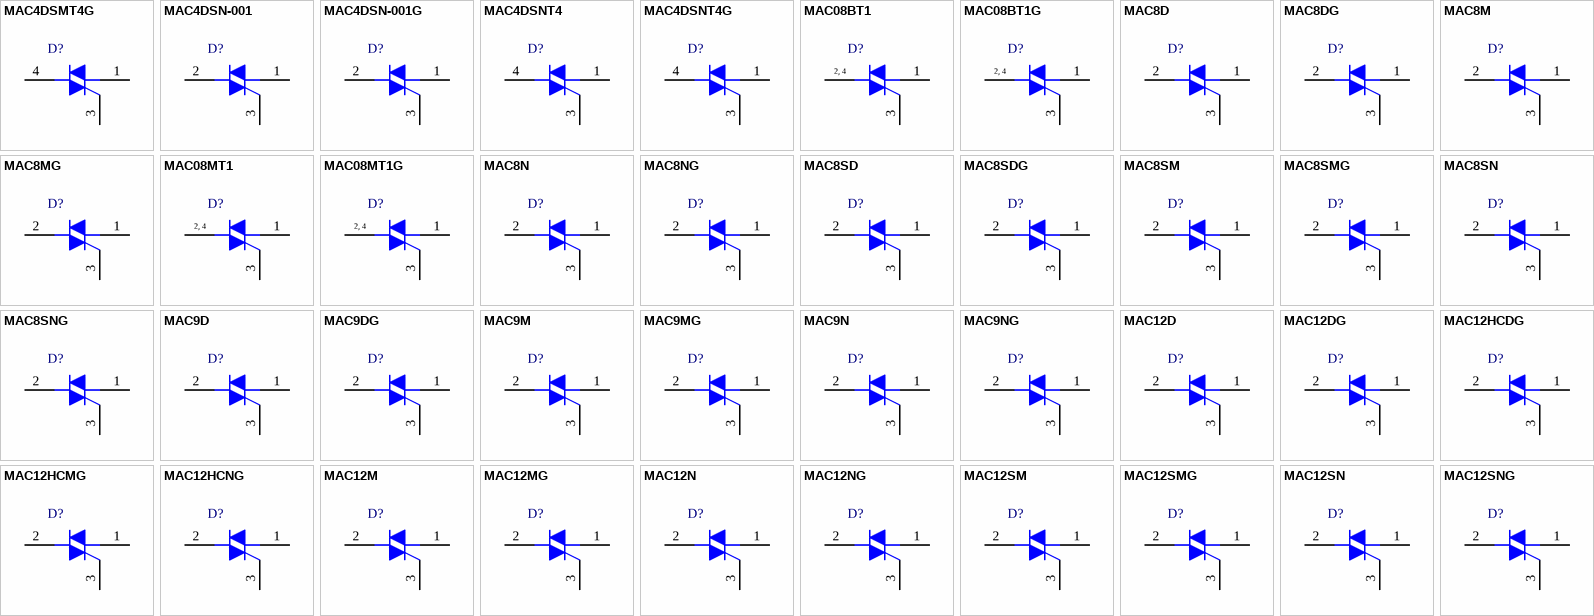
[diagram p2: symbols MAC4DSMT4G to MAC12SNG]

## MAC4DSMT4G
designator D?
Triacs, Silicon Bidirectional Thyristor, 3-Pin DPAK, Pb-Free, Tape and Reel; Manufacturer: On Semiconductor; PartNumber: MAC4DSMT4G; IGT Max (mA): 10; IT(RMS) Max (A): 4; ITSM Max (A): 40; DatasheetVersion: Rev. 6; PackageVersion: Rev. E, 02/2014; PackageReference: DPAK-3-369C-01; PackageDescription: 3-Pin Flange Mount, Body 6.54 x 6.095 mm, Pitch 2.29 mm; Supplier 1: Digi-Key; Supplier Part Number 1: MAC4DSMT4GOSTR-ND; Supplier 2: Digi-Key; Supplier Part Number 2: MAC4DSMT4GOSCT-ND; Supplier 3: Digi-Key; Supplier Part Number 3: MAC4DSMT4GOSDKR-ND; Supplier 4: Newark; Supplier Part Number 4: 71J5236; Supplier 5: Newark; Supplier Part Number 5: 10N9408; Supplier 6: Mouser; Supplier Part Number 6: 863-MAC4DSMT4G; Packing: Tape and Reel; RoHS: Pb-Free; Mounting Technology: Surface Mount; ComponentLink1Description: Manufacturer URL; ComponentLink1URL: http://www.onsemi.com/; ComponentLink2Description: Datasheet; ComponentLink2URL: http://www.onsemi.com/pub_link/Collateral/MAC4DSM-D.PDF; ComponentLink3Description: Package Specification; ComponentLink3URL: http://www.onsemi.cn/pub_link/Collateral/369C.PDF
footprint ONSC-DPAK-3-369C-01_V (DPAK, 3-Leads, Body 6.54x6.095mm, Pitch 2.29mm)
pins: 1 MT1, 3 G, 4 MT2

## MAC4DSN-001
designator D?
Triacs, Silicon Bidirectional Thyristor, 3-Pin IPAK, Tube; Manufacturer: On Semiconductor; PartNumber: MAC4DSN-001; IGT Max (mA): 10; IT(RMS) Max (A): 4; ITSM Max (A): 40; DatasheetVersion: Rev. 6; PackageVersion: Rev. C, 12/2010; PackageReference: IPAK-3-369D-01; PackageDescription: 3-Pin Flange Mount, Vertical Straight Lead, Body 6.54 x 2.285 mm, Pitch 2.29 mm; Supplier 1: Digi-Key; Supplier Part Number 1: MAC4DSN-001-ND; Supplier 2: Mouser; Supplier Part Number 2: N/A; Packing: Tube; Mounting Technology: Through Hole; Code_JEDEC: TO-251; ComponentLink1Description: Manufacturer URL; ComponentLink1URL: http://www.onsemi.com/; ComponentLink2Description: Datasheet; ComponentLink2URL: http://www.onsemi.com/pub_link/Collateral/MAC4DSM-D.PDF; ComponentLink3Description: Package Specification; ComponentLink3URL: http://www.onsemi.cn/pub_link/Collateral/369D.PDF
footprint ONSC-IPAK-3-369D-01 (FM, 3-Leads, Body 6.75x2.4mm, Pitch 2.29mm)
pins: 1 MT1, 2 MT2, 3 G

## MAC4DSN-001G
designator D?
Triacs, Silicon Bidirectional Thyristor, 3-Pin IPAK, Pb-Free, Tube; Manufacturer: On Semiconductor; PartNumber: MAC4DSN-001G; IGT Max (mA): 10; IT(RMS) Max (A): 4; ITSM Max (A): 40; DatasheetVersion: Rev. 6; PackageVersion: Rev. C, 12/2010; PackageReference: IPAK-3-369D-01; PackageDescription: 3-Pin Flange Mount, Vertical Straight Lead, Body 6.54 x 2.285 mm, Pitch 2.29 mm; Packing: Tube; RoHS: Pb-Free; Mounting Technology: Through Hole; Code_JEDEC: TO-251; ComponentLink1Description: Manufacturer URL; ComponentLink1URL: http://www.onsemi.com/; ComponentLink2Description: Datasheet; ComponentLink2URL: http://www.onsemi.com/pub_link/Collateral/MAC4DSM-D.PDF; ComponentLink3Description: Package Specification; ComponentLink3URL: http://www.onsemi.cn/pub_link/Collateral/369D.PDF
footprint ONSC-IPAK-3-369D-01 (FM, 3-Leads, Body 6.75x2.4mm, Pitch 2.29mm)
pins: 1 MT1, 2 MT2, 3 G

## MAC4DSNT4
designator D?
Triacs, Silicon Bidirectional Thyristor, 3-Pin DPAK, Tape and Reel; Manufacturer: On Semiconductor; PartNumber: MAC4DSNT4; IGT Max (mA): 10; IT(RMS) Max (A): 4; ITSM Max (A): 40; DatasheetVersion: Rev. 6; PackageVersion: Rev. E, 02/2014; PackageReference: DPAK-3-369C-01; PackageDescription: 3-Pin Flange Mount, Body 6.54 x 6.095 mm, Pitch 2.29 mm; Packing: Tape and Reel; Mounting Technology: Surface Mount; ComponentLink1Description: Manufacturer URL; ComponentLink1URL: http://www.onsemi.com/; ComponentLink2Description: Datasheet; ComponentLink2URL: http://www.onsemi.com/pub_link/Collateral/MAC4DSM-D.PDF; ComponentLink3Description: Package Specification; ComponentLink3URL: http://www.onsemi.cn/pub_link/Collateral/369C.PDF
footprint ONSC-DPAK-3-369C-01_V (DPAK, 3-Leads, Body 6.54x6.095mm, Pitch 2.29mm)
pins: 1 MT1, 3 G, 4 MT2

## MAC4DSNT4G
designator D?
Triacs, Silicon Bidirectional Thyristor, 3-Pin DPAK, Pb-Free, Tape and Reel; Manufacturer: On Semiconductor; PartNumber: MAC4DSNT4G; IGT Max (mA): 10; IT(RMS) Max (A): 4; ITSM Max (A): 40; DatasheetVersion: Rev. 6; PackageVersion: Rev. E, 02/2014; PackageReference: DPAK-3-369C-01; PackageDescription: 3-Pin Flange Mount, Body 6.54 x 6.095 mm, Pitch 2.29 mm; Supplier 1: Digi-Key; Supplier Part Number 1: MAC4DSNT4GOSTR-ND; Supplier 2: Digi-Key; Supplier Part Number 2: MAC4DSNT4GOSCT-ND; Supplier 3: Newark; Supplier Part Number 3: 26K3653; Supplier 4: Mouser; Supplier Part Number 4: 863-MAC4DSNT4G; Packing: Tape and Reel; RoHS: Pb-Free; Mounting Technology: Surface Mount; ComponentLink1Description: Manufacturer URL; ComponentLink1URL: http://www.onsemi.com/; ComponentLink2Description: Datasheet; ComponentLink2URL: http://www.onsemi.com/pub_link/Collateral/MAC4DSM-D.PDF; ComponentLink3Description: Package Specification; ComponentLink3URL: http://www.onsemi.cn/pub_link/Collateral/369C.PDF
footprint ONSC-DPAK-3-369C-01_V (DPAK, 3-Leads, Body 6.54x6.095mm, Pitch 2.29mm)
pins: 1 MT1, 3 G, 4 MT2

## MAC08BT1
designator D?
Sensitive Gate Triacs, Silicon Bidirectional Thyristor, 4-Pin SOT-223, Tape and Reel; Manufacturer: On Semiconductor; PartNumber: MAC08BT1; IGT Max (mA): 10; IT(RMS) Max (A): 0.8; ITSM Max (A): 8; DatasheetVersion: Rev. 5; PackageVersion: Rev. N, 08/2009; PackageReference: SOT-223-4-318E-04; PackageDescription: 4-Pin Small Outline Transistor, Body 6.5 x 3.5 mm, Pitch 2.3 mm; Supplier 1: Digi-Key; Supplier Part Number 1: MAC08BT1OSCT-ND; Supplier 2: Digi-Key; Supplier Part Number 2: MAC08BT1OSDKR-ND; Packing: Tape and Reel; Mounting Technology: Surface Mount; ComponentLink1Description: Manufacturer URL; ComponentLink1URL: http://www.onsemi.com/; ComponentLink2Description: Datasheet; ComponentLink2URL: http://www.onsemi.com/pub_link/Collateral/MAC08BT1-D.PDF; ComponentLink3Description: Package Specification; ComponentLink3URL: http://www.onsemi.com/pub_link/Collateral/318E-04.PDF
footprint ONSC-SOT-223-4-318E-04_V (SOT223, 4-Leads, Body 6.5x3.5mm, Pitch 2.3mm)
pins: 1 MT1, 2 MT2, 3 G, 4 MT2
text: 2, 4

## MAC08BT1G
designator D?
Sensitive Gate Triacs, Silicon Bidirectional Thyristor, 4-Pin SOT-223, Pb-Free, Tape and Reel; Manufacturer: On Semiconductor; PartNumber: MAC08BT1G; IGT Max (mA): 10; IT(RMS) Max (A): 0.8; ITSM Max (A): 8; DatasheetVersion: Rev. 5; PackageVersion: Rev. N, 08/2009; PackageReference: SOT-223-4-318E-04; PackageDescription: 4-Pin Small Outline Transistor, Body 6.5 x 3.5 mm, Pitch 2.3 mm; Supplier 1: Digi-Key; Supplier Part Number 1: MAC08BT1GOSTR-ND; Supplier 2: Digi-Key; Supplier Part Number 2: MAC08BT1GOSCT-ND; Supplier 3: Digi-Key; Supplier Part Number 3: MAC08BT1GOSDKR-ND; Supplier 4: Farnell; Supplier Part Number 4: 1705515; Supplier 5: Newark; Supplier Part Number 5: 10N9407; Supplier 6: Newark; Supplier Part Number 6: 16M4493; Supplier 7: Mouser; Supplier Part Number 7: 863-MAC08BT1G; Packing: Tape and Reel; RoHS: Pb-Free; Mounting Technology: Surface Mount; ComponentLink1Description: Manufacturer URL; ComponentLink1URL: http://www.onsemi.com/; ComponentLink2Description: Datasheet; ComponentLink2URL: http://www.onsemi.com/pub_link/Collateral/MAC08BT1-D.PDF; ComponentLink3Description: Package Specification; ComponentLink3URL: http://www.onsemi.com/pub_link/Collateral/318E-04.PDF
footprint ONSC-SOT-223-4-318E-04_V (SOT223, 4-Leads, Body 6.5x3.5mm, Pitch 2.3mm)
pins: 1 MT1, 2 MT2, 3 G, 4 MT2
text: 2, 4

## MAC8D
designator D?
Triacs, Silicon Bidirectional Thyristor, 3-Pin TO-220, Tube; Manufacturer: On Semiconductor; PartNumber: MAC8D; IGT Max (mA): 35; IT(RMS) Max (A): 8; ITSM Max (A): 80; DatasheetVersion: Rev. 7; PackageVersion: Rev. AG, 09/2011; PackageReference: TO-220-3-221A-09; PackageDescription: 3-Pin Flange Mount, Vertical Straight Lead, Body 9.97 x 4.445 mm, Pitch 2.54 mm; Packing: Tube; Mounting Technology: Through Hole; ComponentLink1Description: Manufacturer URL; ComponentLink1URL: http://www.onsemi.com/; ComponentLink2Description: Datasheet; ComponentLink2URL: http://www.onsemi.com/pub_link/Collateral/MAC8D-D.PDF; ComponentLink3Description: Package Specification; ComponentLink3URL: http://www.onsemi.com/pub_link/Collateral/221A-09.PDF
footprint ONSC-TO-220-3-221A-09 (FM, 3-Leads, Body 10.3x4.85mm, Pitch 2.54mm)
pins: 1 MT1, 2 MT2, 3 G

## MAC8DG
designator D?
Triacs, Silicon Bidirectional Thyristor, 3-Pin TO-220, Pb-Free, Tube; Manufacturer: On Semiconductor; PartNumber: MAC8DG; IGT Max (mA): 35; IT(RMS) Max (A): 8; ITSM Max (A): 80; DatasheetVersion: Rev. 7; PackageVersion: Rev. AG, 09/2011; PackageReference: TO-220-3-221A-09; PackageDescription: 3-Pin Flange Mount, Vertical Straight Lead, Body 9.97 x 4.445 mm, Pitch 2.54 mm; Supplier 1: Digi-Key; Supplier Part Number 1: MAC8DGOS-ND; Supplier 2: Newark; Supplier Part Number 2: 41K9941; Supplier 3: Mouser; Supplier Part Number 3: 863-MAC8DG; Packing: Tube; RoHS: Pb-Free; Mounting Technology: Through Hole; ComponentLink1Description: Manufacturer URL; ComponentLink1URL: http://www.onsemi.com/; ComponentLink2Description: Datasheet; ComponentLink2URL: http://www.onsemi.com/pub_link/Collateral/MAC8D-D.PDF; ComponentLink3Description: Package Specification; ComponentLink3URL: http://www.onsemi.com/pub_link/Collateral/221A-09.PDF
footprint ONSC-TO-220-3-221A-09 (FM, 3-Leads, Body 10.3x4.85mm, Pitch 2.54mm)
pins: 1 MT1, 2 MT2, 3 G

## MAC8M
designator D?
Triacs, Silicon Bidirectional Thyristor, 3-Pin TO-220, Tube; Manufacturer: On Semiconductor; PartNumber: MAC8M; IGT Max (mA): 35; IT(RMS) Max (A): 8; ITSM Max (A): 80; DatasheetVersion: Rev. 7; PackageVersion: Rev. AG, 09/2011; PackageReference: TO-220-3-221A-09; PackageDescription: 3-Pin Flange Mount, Vertical Straight Lead, Body 9.97 x 4.445 mm, Pitch 2.54 mm; Packing: Tube; Mounting Technology: Through Hole; ComponentLink1Description: Manufacturer URL; ComponentLink1URL: http://www.onsemi.com/; ComponentLink2Description: Datasheet; ComponentLink2URL: http://www.onsemi.com/pub_link/Collateral/MAC8D-D.PDF; ComponentLink3Description: Package Specification; ComponentLink3URL: http://www.onsemi.com/pub_link/Collateral/221A-09.PDF
footprint ONSC-TO-220-3-221A-09 (FM, 3-Leads, Body 10.3x4.85mm, Pitch 2.54mm)
pins: 1 MT1, 2 MT2, 3 G

## MAC8MG
designator D?
Triacs, Silicon Bidirectional Thyristor, 3-Pin TO-220, Pb-Free, Tube; Manufacturer: On Semiconductor; PartNumber: MAC8MG; IGT Max (mA): 35; IT(RMS) Max (A): 8; ITSM Max (A): 80; DatasheetVersion: Rev. 7; PackageVersion: Rev. AG, 09/2011; PackageReference: TO-220-3-221A-09; PackageDescription: 3-Pin Flange Mount, Vertical Straight Lead, Body 9.97 x 4.445 mm, Pitch 2.54 mm; Supplier 1: Digi-Key; Supplier Part Number 1: MAC8MGOS-ND; Supplier 2: Farnell; Supplier Part Number 2: 1147610; Supplier 3: Newark; Supplier Part Number 3: 26K3654; Supplier 4: Mouser; Supplier Part Number 4: 863-MAC8MG; Packing: Tube; RoHS: Pb-Free; Mounting Technology: Through Hole; ComponentLink1Description: Manufacturer URL; ComponentLink1URL: http://www.onsemi.com/; ComponentLink2Description: Datasheet; ComponentLink2URL: http://www.onsemi.com/pub_link/Collateral/MAC8D-D.PDF; ComponentLink3Description: Package Specification; ComponentLink3URL: http://www.onsemi.com/pub_link/Collateral/221A-09.PDF
footprint ONSC-TO-220-3-221A-09 (FM, 3-Leads, Body 10.3x4.85mm, Pitch 2.54mm)
pins: 1 MT1, 2 MT2, 3 G

## MAC08MT1
designator D?
Sensitive Gate Triacs, Silicon Bidirectional Thyristor, 4-Pin SOT-223, Tape and Reel; Manufacturer: On Semiconductor; PartNumber: MAC08MT1; IGT Max (mA): 10; IT(RMS) Max (A): 0.8; ITSM Max (A): 8; DatasheetVersion: Rev. 5; PackageVersion: Rev. N, 08/2009; PackageReference: SOT-223-4-318E-04; PackageDescription: 4-Pin Small Outline Transistor, Body 6.5 x 3.5 mm, Pitch 2.3 mm; Supplier 1: Digi-Key; Supplier Part Number 1: MAC08MT1OSCT-ND; Supplier 2: Digi-Key; Supplier Part Number 2: MAC08MT1OSDKR-ND; Packing: Tape and Reel; Mounting Technology: Surface Mount; ComponentLink1Description: Manufacturer URL; ComponentLink1URL: http://www.onsemi.com/; ComponentLink2Description: Datasheet; ComponentLink2URL: http://www.onsemi.com/pub_link/Collateral/MAC08BT1-D.PDF; ComponentLink3Description: Package Specification; ComponentLink3URL: http://www.onsemi.com/pub_link/Collateral/318E-04.PDF
footprint ONSC-SOT-223-4-318E-04_V (SOT223, 4-Leads, Body 6.5x3.5mm, Pitch 2.3mm)
pins: 1 MT1, 2 MT2, 3 G, 4 MT2
text: 2, 4

## MAC08MT1G
designator D?
Sensitive Gate Triacs, Silicon Bidirectional Thyristor, 4-Pin SOT-223, Pb-Free, Tape and Reel; Manufacturer: On Semiconductor; PartNumber: MAC08MT1G; IGT Max (mA): 10; IT(RMS) Max (A): 0.8; ITSM Max (A): 8; DatasheetVersion: Rev. 5; PackageVersion: Rev. N, 08/2009; PackageReference: SOT-223-4-318E-04; PackageDescription: 4-Pin Small Outline Transistor, Body 6.5 x 3.5 mm, Pitch 2.3 mm; Supplier 1: Digi-Key; Supplier Part Number 1: MAC08MT1GOSTR-ND; Supplier 2: Digi-Key; Supplier Part Number 2: MAC08MT1GOSCT-ND; Supplier 3: Digi-Key; Supplier Part Number 3: MAC08MT1GOSDKR-ND; Supplier 4: Farnell; Supplier Part Number 4: 1899671; Supplier 5: Newark; Supplier Part Number 5: 64R8500; Supplier 6: Newark; Supplier Part Number 6: 16M4494; Supplier 7: Mouser; Supplier Part Number 7: 863-MAC08MT1G; Packing: Tape and Reel; RoHS: Pb-Free; Mounting Technology: Surface Mount; ComponentLink1Description: Manufacturer URL; ComponentLink1URL: http://www.onsemi.com/; ComponentLink2Description: Datasheet; ComponentLink2URL: http://www.onsemi.com/pub_link/Collateral/MAC08BT1-D.PDF; ComponentLink3Description: Package Specification; ComponentLink3URL: http://www.onsemi.com/pub_link/Collateral/318E-04.PDF
footprint ONSC-SOT-223-4-318E-04_V (SOT223, 4-Leads, Body 6.5x3.5mm, Pitch 2.3mm)
pins: 1 MT1, 2 MT2, 3 G, 4 MT2
text: 2, 4

## MAC8N
designator D?
Triacs, Silicon Bidirectional Thyristor, 3-Pin TO-220, Tube; Manufacturer: On Semiconductor; PartNumber: MAC8N; IGT Max (mA): 35; IT(RMS) Max (A): 8; ITSM Max (A): 80; DatasheetVersion: Rev. 7; PackageVersion: Rev. AG, 09/2011; PackageReference: TO-220-3-221A-09; PackageDescription: 3-Pin Flange Mount, Vertical Straight Lead, Body 9.97 x 4.445 mm, Pitch 2.54 mm; Packing: Tube; Mounting Technology: Through Hole; ComponentLink1Description: Manufacturer URL; ComponentLink1URL: http://www.onsemi.com/; ComponentLink2Description: Datasheet; ComponentLink2URL: http://www.onsemi.com/pub_link/Collateral/MAC8D-D.PDF; ComponentLink3Description: Package Specification; ComponentLink3URL: http://www.onsemi.com/pub_link/Collateral/221A-09.PDF
footprint ONSC-TO-220-3-221A-09 (FM, 3-Leads, Body 10.3x4.85mm, Pitch 2.54mm)
pins: 1 MT1, 2 MT2, 3 G

## MAC8NG
designator D?
Triacs, Silicon Bidirectional Thyristor, 3-Pin TO-220, Pb-Free, Tube; Manufacturer: On Semiconductor; PartNumber: MAC8NG; IGT Max (mA): 35; IT(RMS) Max (A): 8; ITSM Max (A): 80; DatasheetVersion: Rev. 7; PackageVersion: Rev. AG, 09/2011; PackageReference: TO-220-3-221A-09; PackageDescription: 3-Pin Flange Mount, Vertical Straight Lead, Body 9.97 x 4.445 mm, Pitch 2.54 mm; Supplier 1: Digi-Key; Supplier Part Number 1: MAC8NGOS-ND; Supplier 2: Farnell; Supplier Part Number 2: 2317532; Supplier 3: Newark; Supplier Part Number 3: 90W4472; Supplier 4: Newark; Supplier Part Number 4: 45J0764; Supplier 5: Mouser; Supplier Part Number 5: 863-MAC8NG; Packing: Tube; RoHS: Pb-Free; Mounting Technology: Through Hole; ComponentLink1Description: Manufacturer URL; ComponentLink1URL: http://www.onsemi.com/; ComponentLink2Description: Datasheet; ComponentLink2URL: http://www.onsemi.com/pub_link/Collateral/MAC8D-D.PDF; ComponentLink3Description: Package Specification; ComponentLink3URL: http://www.onsemi.com/pub_link/Collateral/221A-09.PDF
footprint ONSC-TO-220-3-221A-09 (FM, 3-Leads, Body 10.3x4.85mm, Pitch 2.54mm)
pins: 1 MT1, 2 MT2, 3 G